# Altium schematic symbol library LM2937IMPX-3.3_NOPB.SchLib: 1 symbol
Pins are listed as number, name and electrical type; pins without a type are passive.

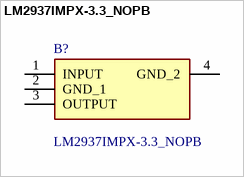
[diagram p0: symbol LM2937IMPX-3.3_NOPB]

## LM2937IMPX-3.3_NOPB
designator B?
400mA and 500mA Voltage Regulator; Manufacturer_Name: Texas Instruments; Manufacturer_Part_Number: LM2937IMPX-3.3/NOPB; Geometry.Height: 1.8mm; Mouser Part Number: 926-LM2937IMPX33NOPB; Mouser Price/Stock: https://www.mouser.co.uk/ProductDetail/Texas-Instruments/LM2937IMPX-3.3-NOPB?qs=X1J7HmVL2ZH3Ne6ZzlDuvw%3D%3D; Datasheet Link: https://datasheet.datasheetarchive.com/originals/distributors/Datasheets-SFU2/DSASFU100036522.pdf
footprint SOT230P700X180-4N
pins: 1 INPUT, 2 GND_1, 3 OUTPUT, 4 GND_2